# EAGLE library part AD818 (library FreeSmartEEG)
Low Cost, Low Power Video Op Amp Source: http://www.analog.com/static/imported-files/data_sheets/AD818.pdf
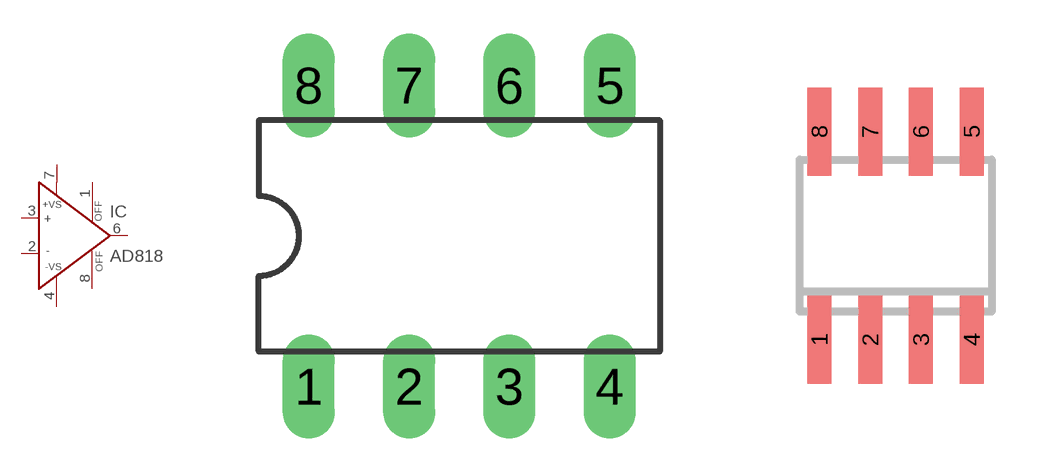
[diagram p104: symbol with the pads of DIL08; footprints DIL08, SO8]

Designator prefix IC

## AD818N (OC_FARNELL: 9605630; OC_NEWARK: unknown)  [DIL08]
1  OFF  pas
2  IN-  in
3  IN+  in
4  -VS  in
6  OUT  out
7  +VS  in
8  OFF  pas

## AD818R (MF: ALTERA CORPORATION; MPN: AD818ARZ; OC_FARNELL: unknown; OC_NEWARK: 82H2988)  [SO8]
Pads as for DIL08

## Footprint DIL08 (pad centres in mm)
Dual In Line Package
drill 0.813 long: 1 -3.81,-3.81; 2 -1.27,-3.81; 3 1.27,-3.81; 4 3.81,-3.81; 5 3.81,3.81; 6 1.27,3.81; 7 -1.27,3.81; 8 -3.81,3.81

## Footprint SO8 (pad centres in mm)
8-Lead Small Outline IC (SO-8) Source: http://www.analog.com/UploadedFiles/Data_Sheets/703465986AD8611_2_0.pdf
smd 0.6 x 2.2: 1 -1.905,-2.6; 2 -0.635,-2.6; 3 0.635,-2.6; 4 1.905,-2.6; 5 1.905,2.6; 6 0.635,2.6; 7 -0.635,2.6; 8 -1.905,2.6